# EAGLE library part QTE-060-01-X-D-A (library con-samtec-qte-qse)
RECEPTACAL
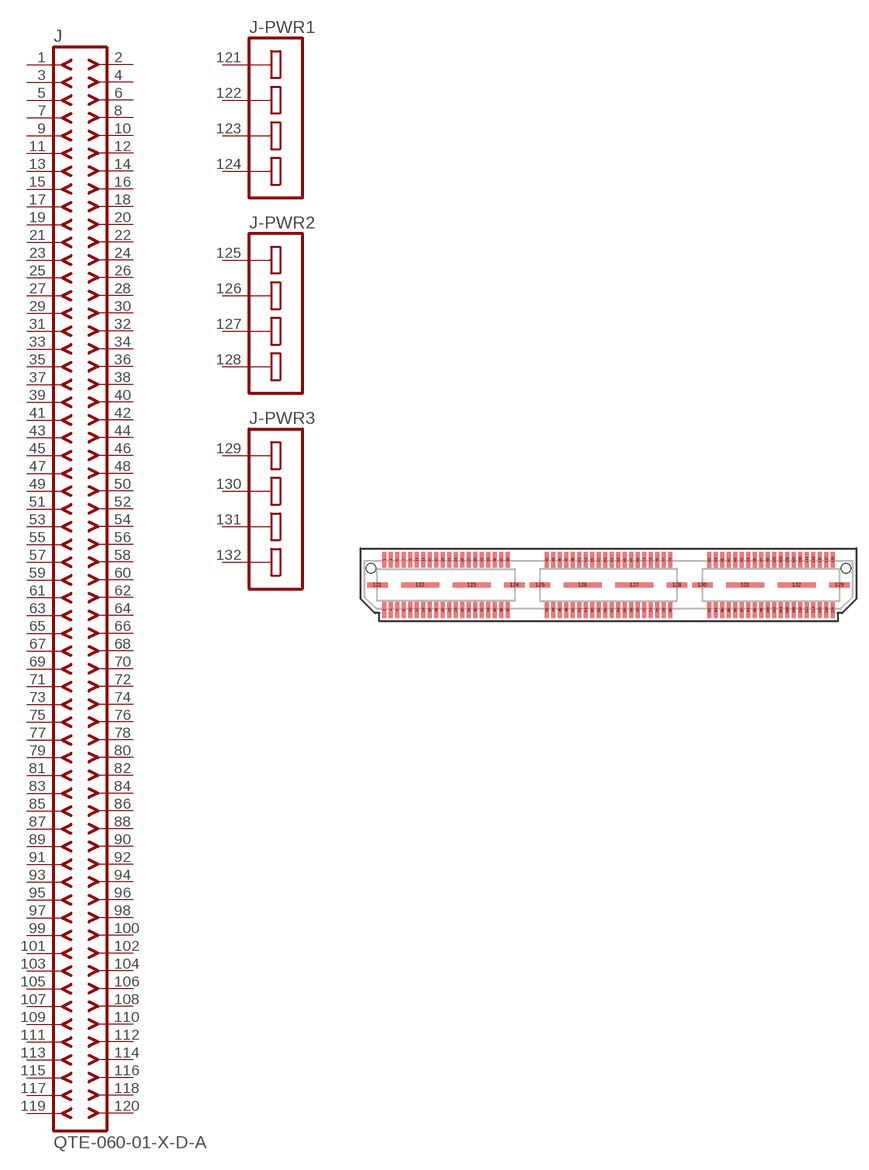
[diagram p4: symbol with the pads of QTE-060-01-X-D-A; footprint QTE-060-01-X-D-A]

Designator prefix J; gates A=FE60-2 -PWR1=PB-4 -PWR2=PB-4 -PWR3=PB-4

## QTE-060-01-X-D-A  [QTE-060-01-X-D-A]
1  A:1  pas
2  A:2  pas
3  A:3  pas
4  A:4  pas
5  A:5  pas
6  A:6  pas
7  A:7  pas
8  A:8  pas
9  A:9  pas
10  A:10  pas
11  A:11  pas
12  A:12  pas
13  A:13  pas
14  A:14  pas
15  A:15  pas
16  A:16  pas
17  A:17  pas
18  A:18  pas
19  A:19  pas
20  A:20  pas
21  A:21  pas
22  A:22  pas
23  A:23  pas
24  A:24  pas
25  A:25  pas
26  A:26  pas
27  A:27  pas
28  A:28  pas
29  A:29  pas
30  A:30  pas
31  A:31  pas
32  A:32  pas
33  A:33  pas
34  A:34  pas
35  A:35  pas
36  A:36  pas
37  A:37  pas
38  A:38  pas
39  A:39  pas
40  A:40  pas
41  A:41  pas
42  A:42  pas
43  A:43  pas
44  A:44  pas
45  A:45  pas
46  A:46  pas
47  A:47  pas
48  A:48  pas
49  A:49  pas
50  A:50  pas
51  A:51  pas
52  A:52  pas
53  A:53  pas
54  A:54  pas
55  A:55  pas
56  A:56  pas
57  A:57  pas
58  A:58  pas
59  A:59  pas
60  A:60  pas
61  A:61  pas
62  A:62  pas
63  A:63  pas
64  A:64  pas
65  A:65  pas
66  A:66  pas
67  A:67  pas
68  A:68  pas
69  A:69  pas
70  A:70  pas
71  A:71  pas
72  A:72  pas
73  A:73  pas
74  A:74  pas
75  A:75  pas
76  A:76  pas
77  A:77  pas
78  A:78  pas
79  A:79  pas
80  A:80  pas
81  A:81  pas
82  A:82  pas
83  A:83  pas
84  A:84  pas
85  A:85  pas
86  A:86  pas
87  A:87  pas
88  A:88  pas
89  A:89  pas
90  A:90  pas
91  A:91  pas
92  A:92  pas
93  A:93  pas
94  A:94  pas
95  A:95  pas
96  A:96  pas
97  A:97  pas
98  A:98  pas
99  A:99  pas
100  A:100  pas
101  A:101  pas
102  A:102  pas
103  A:103  pas
104  A:104  pas
105  A:105  pas
106  A:106  pas
107  A:107  pas
108  A:108  pas
109  A:109  pas
110  A:110  pas
111  A:111  pas
112  A:112  pas
113  A:113  pas
114  A:114  pas
115  A:115  pas
116  A:116  pas
117  A:117  pas
118  A:118  pas
119  A:119  pas
120  A:120  pas
121  -PWR1:1  pas
122  -PWR1:2  pas
123  -PWR1:3  pas
124  -PWR1:4  pas
125  -PWR2:1  pas
126  -PWR2:2  pas
127  -PWR2:3  pas
128  -PWR2:4  pas
129  -PWR3:1  pas
130  -PWR3:2  pas
131  -PWR3:3  pas
132  -PWR3:4  pas

## Footprint QTE-060-01-X-D-A (pad centres in mm)
QTE SERIES RECEPTACAL Pitch 0.8mm, Double Row
smd 0.46 x 1.94: 1 -27.6,3.09; 2 -27.6,-3.09; 3 -26.8,3.09; 4 -26.8,-3.09; 5 -26,3.09; 6 -26,-3.09; 7 -25.2,3.09; 8 -25.2,-3.09; 9 -24.4,3.09; 10 -24.4,-3.09; 11 -23.6,3.09; 12 -23.6,-3.09; 13 -22.8,3.09; 14 -22.8,-3.09; 15 -22,3.09; 16 -22,-3.09; 17 -21.2,3.09; 18 -21.2,-3.09; 19 -20.4,3.09; 20 -20.4,-3.09; 21 -19.6,3.09; 22 -19.6,-3.09; 23 -18.8,3.09; 24 -18.8,-3.09; 25 -18,3.09; 26 -18,-3.09; 27 -17.2,3.09; 28 -17.2,-3.09; 29 -16.4,3.09; 30 -16.4,-3.09; 31 -15.6,3.09; 32 -15.6,-3.09; 33 -14.8,3.09; 34 -14.8,-3.09; 35 -14,3.09; 36 -14,-3.09; 37 -13.2,3.09; 38 -13.2,-3.09; 39 -12.4,3.09; 40 -12.4,-3.09; 41 -7.6,3.09; 42 -7.6,-3.09; 43 -6.8,3.09; 44 -6.8,-3.09; 45 -6,3.09; 46 -6,-3.09; 47 -5.2,3.09; 48 -5.2,-3.09; 49 -4.4,3.09; 50 -4.4,-3.09; 51 -3.6,3.09; 52 -3.6,-3.09; 53 -2.8,3.09; 54 -2.8,-3.09; 55 -2,3.09; 56 -2,-3.09; 57 -1.2,3.09; 58 -1.2,-3.09; 59 -0.4,3.09; 60 -0.4,-3.09; 61 0.4,3.09; 62 0.4,-3.09; 63 1.2,3.09; 64 1.2,-3.09; 65 2,3.09; 66 2,-3.09; 67 2.8,3.09; 68 2.8,-3.09; 69 3.6,3.09; 70 3.6,-3.09; 71 4.4,3.09; 72 4.4,-3.09; 73 5.2,3.09; 74 5.2,-3.09; 75 6,3.09; 76 6,-3.09; 77 6.8,3.09; 78 6.8,-3.09; 79 7.6,3.09; 80 7.6,-3.09; 81 12.4,3.09; 82 12.4,-3.09; 83 13.2,3.09; 84 13.2,-3.09; 85 14,3.09; 86 14,-3.09; 87 14.8,3.09; 88 14.8,-3.09; 89 15.6,3.09; 90 15.6,-3.09; 91 16.4,3.09; 92 16.4,-3.09; 93 17.2,3.09; 94 17.2,-3.09; 95 18,3.09; 96 18,-3.09; 97 18.8,3.09; 98 18.8,-3.09; 99 19.6,3.09; 100 19.6,-3.09; 101 20.4,3.09; 102 20.4,-3.09; 103 21.2,3.09; 104 21.2,-3.09; 105 22,3.09; 106 22,-3.09; 107 22.8,3.09; 108 22.8,-3.09; 109 23.6,3.09; 110 23.6,-3.09; 111 24.4,3.09; 112 24.4,-3.09; 113 25.2,3.09; 114 25.2,-3.09; 115 26,3.09; 116 26,-3.09; 117 26.8,3.09; 118 26.8,-3.09; 119 27.6,3.09; 120 27.6,-3.09
smd 2.54 x 0.64: 121 -28.44,0; 124 -11.56,0; 125 -8.44,0; 128 8.44,0; 129 28.44,0; 130 11.56,0
smd 4.7 x 0.64: 122 -23.18,0; 123 -16.83,0; 126 -3.17,0; 127 3.18,0; 131 16.83,0; 132 23.18,0
hole 1.19 at -29.24,2.04
hole 1.19 at 29.24,2.04